# Altium footprint library Connector.PcbLib: 15 footprints
Each footprint in its own frame and in the unit in brackets; x right, y up, seen from the top. Pads: shape width x height; smd on the part's side, far side on the other; paste and mask are expansions set on the pad; w line width, h text height; cw(c..) or ccw(c..) is an arc to the next point about the centre after c.
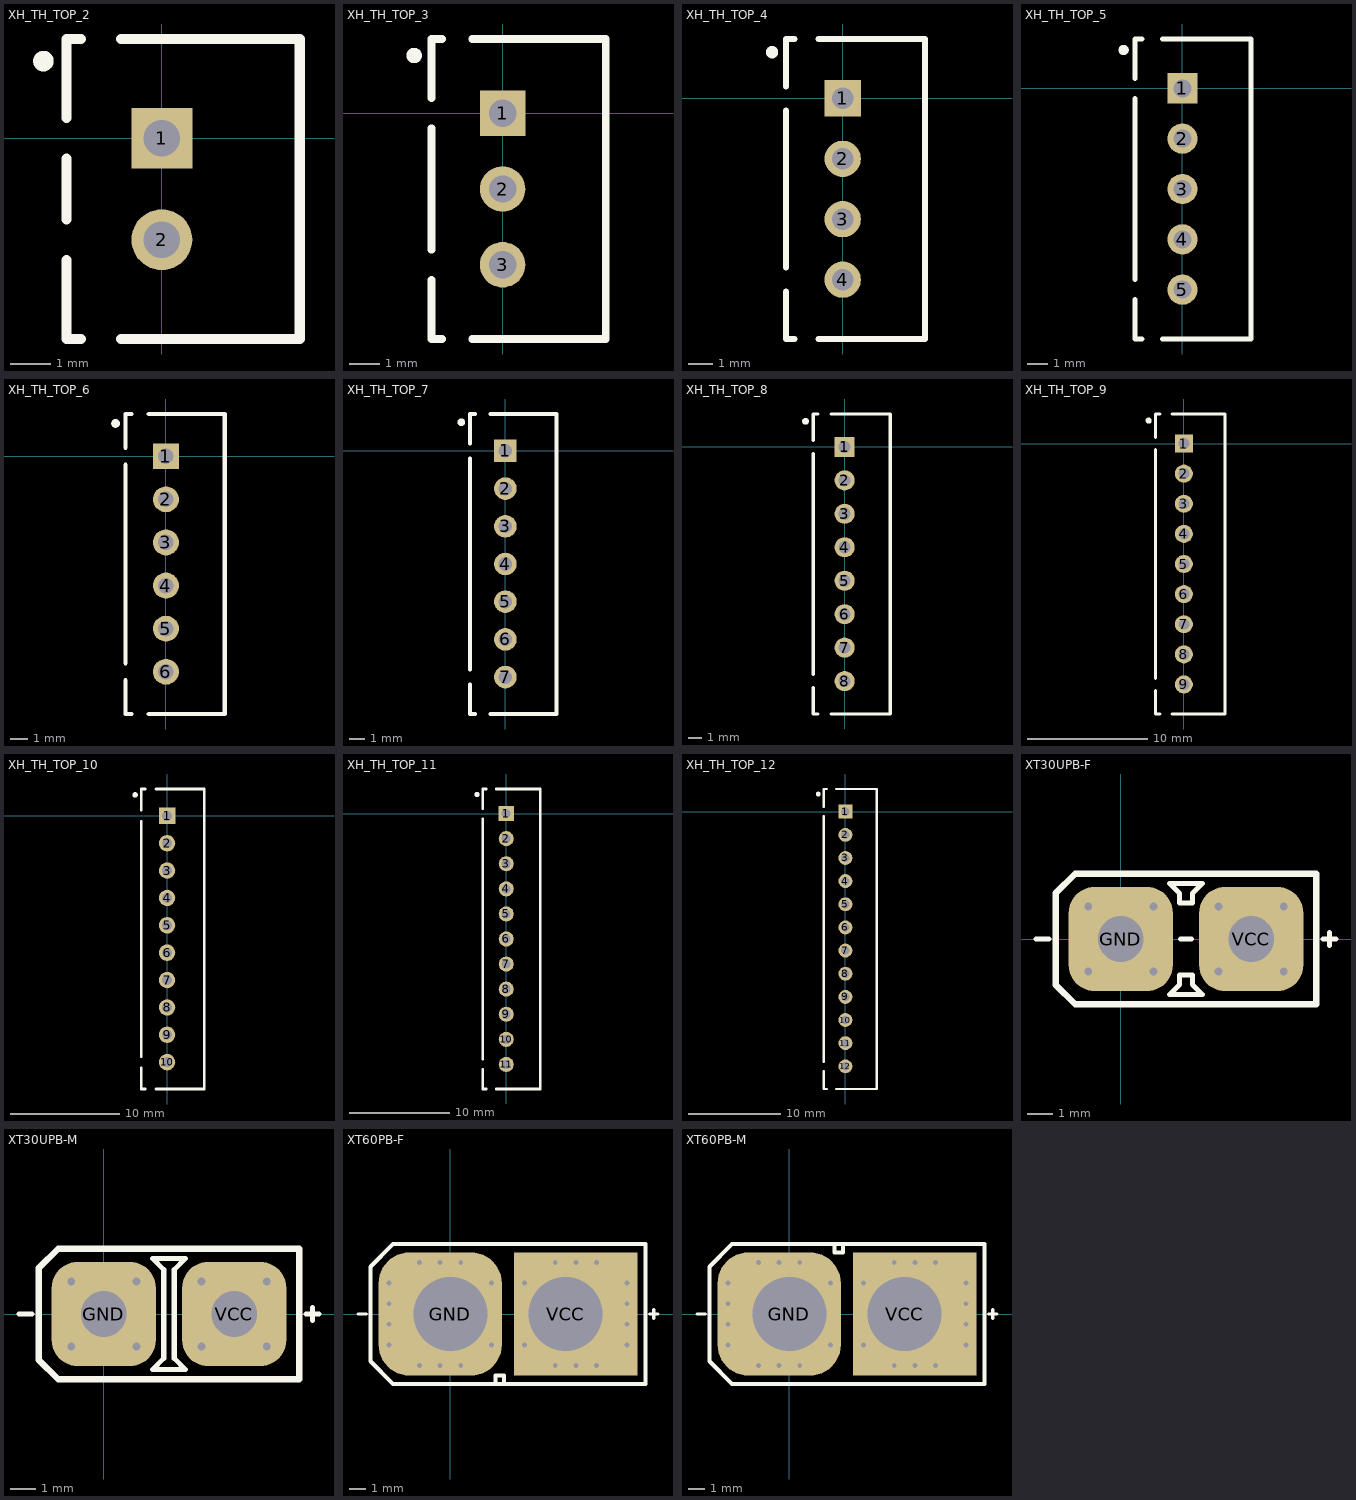
[diagram p0: the footprints below, top view; thin cyan lines are the x and y axes]

## XH_TH_TOP_2 [mm] "JST XH, Through Hole, Top Mount, 2Pin"
height 7
pads (2):
  rect 1.5x1.5 hole 0.9: 1(0,0)
  round 1.5 hole 0.9: 2(0,-2.5)
Top Overlay:
  circle w0.254: c-2.921,1.905 r0.127
  lines w0.254: -2.35,-3 -2.35,-4.95 -2,-4.95 ; -2.35,-2 -2.35,-0.5 ; -2.35,0.5 -2.35,2.45 -2,2.45 ; -1,-4.95 3.4,-4.95 3.4,2.45 -1,2.45

## XH_TH_TOP_3 [mm] "JST XH, Through Hole, Top Mount, 3Pin"
height 7
pads (3):
  rect 1.5x1.5 hole 0.9: 1(0,0)
  round 1.5 hole 0.9: 2(0,-2.5) 3(0,-5)
Top Overlay:
  circle w0.254: c-2.921,1.905 r0.127
  lines w0.254: -2.35,-5.5 -2.35,-7.45 -2,-7.45 ; -2.35,-4.5 -2.35,-0.5 ; -2.35,0.5 -2.35,2.45 -2,2.45 ; -1,-7.45 3.4,-7.45 3.4,2.45 -1,2.45

## XH_TH_TOP_4 [mm] "JST XH, Through Hole, Top Mount, 4Pin"
height 7
pads (4):
  rect 1.5x1.5 hole 0.9: 1(0,0)
  round 1.5 hole 0.9: 2(0,-2.5) 3(0,-5) 4(0,-7.5)
Top Overlay:
  circle w0.254: c-2.921,1.905 r0.127
  lines w0.254: -2.35,-8 -2.35,-9.95 -2,-9.95 ; -2.35,-7 -2.35,-0.5 ; -2.35,0.5 -2.35,2.45 -2,2.45 ; -1,-9.95 3.4,-9.95 3.4,2.45 -1,2.45

## XH_TH_TOP_5 [mm] "JST XH, Through Hole, Top Mount, 5Pin"
height 7
pads (5):
  rect 1.5x1.5 hole 0.9: 1(0,0)
  round 1.5 hole 0.9: 2(0,-2.5) 3(0,-5) 4(0,-7.5) 5(0,-10)
Top Overlay:
  circle w0.254: c-2.921,1.905 r0.127
  lines w0.254: -2.35,-10.5 -2.35,-12.45 -2,-12.45 ; -2.35,-9.5 -2.35,-0.5 ; -2.35,0.5 -2.35,2.45 -2,2.45 ; -1,-12.45 3.4,-12.45 3.4,2.45 -1,2.45

## XH_TH_TOP_6 [mm] "JST XH, Through Hole, Top Mount, 6Pin"
height 7
pads (6):
  rect 1.5x1.5 hole 0.9: 1(0,0)
  round 1.5 hole 0.9: 2(0,-2.5) 3(0,-5) 4(0,-7.5) 5(0,-10) 6(0,-12.5)
Top Overlay:
  circle w0.254: c-2.921,1.905 r0.127
  lines w0.254: -2.35,-13 -2.35,-14.95 -2,-14.95 ; -2.35,-12 -2.35,-0.5 ; -2.35,0.5 -2.35,2.45 -2,2.45 ; -1,-14.95 3.4,-14.95 3.4,2.45 -1,2.45

## XH_TH_TOP_7 [mm] "JST XH, Through Hole, Top Mount, 7Pin"
height 7
pads (7):
  rect 1.5x1.5 hole 0.9: 1(0,0)
  round 1.5 hole 0.9: 2(0,-2.5) 3(0,-5) 4(0,-7.5) 5(0,-10) 6(0,-12.5) 7(0,-15)
Top Overlay:
  circle w0.254: c-2.921,1.905 r0.127
  lines w0.254: -2.35,-15.5 -2.35,-17.45 -2,-17.45 ; -2.35,-14.5 -2.35,-0.5 ; -2.35,0.5 -2.35,2.45 -2,2.45 ; -1,-17.45 3.4,-17.45 3.4,2.45 -1,2.45

## XH_TH_TOP_8 [mm] "JST XH, Through Hole, Top Mount, 8Pin"
height 7
pads (8):
  rect 1.5x1.5 hole 0.9: 1(0,0)
  round 1.5 hole 0.9: 2(0,-2.5) 3(0,-5) 4(0,-7.5) 5(0,-10) 6(0,-12.5) 7(0,-15) 8(0,-17.5)
Top Overlay:
  circle w0.254: c-2.921,1.905 r0.127
  lines w0.254: -2.35,-18 -2.35,-19.95 -2,-19.95 ; -2.35,-17 -2.35,-0.5 ; -2.35,0.5 -2.35,2.45 -2,2.45 ; -1,-19.95 3.4,-19.95 3.4,2.45 -1,2.45

## XH_TH_TOP_9 [mm] "JST XH, Through Hole, Top Mount, 9Pin"
height 7
pads (9):
  rect 1.5x1.5 hole 0.9: 1(0,0)
  round 1.5 hole 0.9: 2(0,-2.5) 3(0,-5) 4(0,-7.5) 5(0,-10) 6(0,-12.5) 7(0,-15) 8(0,-17.5) 9(0,-20)
Top Overlay:
  circle w0.254: c-2.921,1.905 r0.127
  lines w0.254: -2.35,-20.5 -2.35,-22.45 -2,-22.45 ; -2.35,-19.5 -2.35,-0.5 ; -2.35,0.5 -2.35,2.45 -2,2.45 ; -1,-22.45 3.4,-22.45 3.4,2.45 -1,2.45

## XH_TH_TOP_10 [mm] "JST XH, Through Hole, Top Mount, 10Pin"
height 7
pads (10):
  rect 1.5x1.5 hole 0.9: 1(0,0)
  round 1.5 hole 0.9: 2(0,-2.5) 3(0,-5) 4(0,-7.5) 5(0,-10) 6(0,-12.5) 7(0,-15) 8(0,-17.5) 9(0,-20) 10(0,-22.5)
Top Overlay:
  circle w0.254: c-2.921,1.905 r0.127
  lines w0.254: -2.35,-23 -2.35,-24.95 -2,-24.95 ; -2.35,-22 -2.35,-0.5 ; -2.35,0.5 -2.35,2.45 -2,2.45 ; -1,-24.95 3.4,-24.95 3.4,2.45 -1,2.45

## XH_TH_TOP_11 [mm] "JST XH, Through Hole, Top Mount, 11Pin"
height 7
pads (11):
  rect 1.5x1.5 hole 0.9: 1(0,0)
  round 1.5 hole 0.9: 2(0,-2.5) 3(0,-5) 4(0,-7.5) 5(0,-10) 6(0,-12.5) 7(0,-15) 8(0,-17.5) 9(0,-20) 10(0,-22.5) 11(0,-25)
Top Overlay:
  circle w0.254: c-2.921,1.905 r0.127
  lines w0.254: -2.35,-25.5 -2.35,-27.45 -2,-27.45 ; -2.35,-24.5 -2.35,-0.5 ; -2.35,0.5 -2.35,2.45 -2,2.45 ; -1,-27.45 3.4,-27.45 3.4,2.45 -1,2.45

## XH_TH_TOP_12 [mm] "JST XH, Through Hole, Top Mount, 12Pin"
height 7
pads (12):
  rect 1.5x1.5 hole 0.9: 1(0,0)
  round 1.5 hole 0.9: 2(0,-2.5) 3(0,-5) 4(0,-7.5) 5(0,-10) 6(0,-12.5) 7(0,-15) 8(0,-17.5) 9(0,-20) 10(0,-22.5) 11(0,-25) 12(0,-27.5)
Top Overlay:
  circle w0.254: c-2.921,1.905 r0.127
  lines w0.254: -2.35,-28 -2.35,-29.95 -2,-29.95 ; -2.35,-27 -2.35,-0.5 ; -2.35,0.5 -2.35,2.45 -2,2.45 ; -1,-29.95 3.4,-29.95 3.4,2.45 -1,2.45

## XT30UPB-F [mil]
height 370.08
pads (2):
  rrect50% 160x160 hole 70: GND(0,0) VCC(200,0)
via -50,50 diameter 24 hole 12
via 50,50 diameter 24 hole 12
via -50,-50 diameter 24 hole 12
via 50,-50 diameter 24 hole 12
via 150,-50 diameter 24 hole 12
via 150,50 diameter 24 hole 12
via 250,50 diameter 24 hole 12
via 250,-50 diameter 24 hole 12
Top Overlay:
  lines w7.87: 92,0 108,0 ; 75,-85 125,-85 110,-70 110,-55 90,-55 90,-70 75,-85 ; 75,85 90,70 90,55 110,55 110,70 125,85 75,85
  lines w8: -130,0 -110,0 ; 310,0 330,0 ; 320,-10 320,10
  lines w10: -100,-70 -70,-100 300,-100 300,0 300,100 -70,100 -100,70 -100,-70
3D body: height 370.08, standoff 0, extent -100,-100 300,100

## XT30UPB-M [mil]
height 421.26
pads (2):
  rrect50% 160x160 hole 70: GND(0,0) VCC(200,0)
via 250,-50 diameter 24 hole 12
via 250,50 diameter 24 hole 12
via 150,50 diameter 24 hole 12
via 150,-50 diameter 24 hole 12
via 50,-50 diameter 24 hole 12
via -50,-50 diameter 24 hole 12
via 50,50 diameter 24 hole 12
via -50,50 diameter 24 hole 12
Top Overlay:
  lines w7.87: 75,-85 125,-85 108,-68 108,68 125,85 75,85 92,68 92,-68 75,-85
  lines w8: -130,0 -110,0 ; 310,0 330,0 ; 320,-10 320,10
  lines w10: -100,-70 -100,70 -70,100 300,100 300,0 300,-100 -70,-100 -100,-70
3D body: height 421.26, standoff 0, extent -100.02,-100.02 300.02,100.02

## XT60PB-F [mil]
height 629.92
pads (2):
  rrect50% 300x300 hole 180 copper offset -25,0: GND(0,0)
  rect 300x300 hole 180 copper offset 25,0: VCC(280,0)
via 355,125 diameter 24 hole 12
via 305,125 diameter 24 hole 12
via 255,125 diameter 24 hole 12
via 430,75 diameter 24 hole 12
via 430,25 diameter 24 hole 12
via 430,-25 diameter 24 hole 12
via 430,-75 diameter 24 hole 12
via 355,-125 diameter 24 hole 12
via 305,-125 diameter 24 hole 12
via 255,-125 diameter 24 hole 12
via 180,-75 diameter 24 hole 12
via 180,75 diameter 24 hole 12
via -150,-75 diameter 24 hole 12
via -150,-25 diameter 24 hole 12
via -150,25 diameter 24 hole 12
via -150,75 diameter 24 hole 12
via 100,75 diameter 24 hole 12
via 100,-75 diameter 24 hole 12
via 25,-125 diameter 24 hole 12
via -25,-125 diameter 24 hole 12
via -75,-125 diameter 24 hole 12
via -75,125 diameter 24 hole 12
via -25,125 diameter 24 hole 12
via 25,125 diameter 24 hole 12
Top Overlay:
  lines w8: -225,0 -205,0 ; 485,0 505,0 ; 495,-10 495,10
  lines w10: 110,-170 110,-150 130,-150 130,-170 ; -195,-115 -195,115 -140,170 475,170 475,0 475,-170 -140,-170 -195,-115
3D body: height 629.92, standoff 0, extent -195,-170 475,170

## XT60PB-M [mil]
height 629.92
pads (2):
  rrect50% 300x300 hole 180 copper offset -25,0: GND(0,0)
  rect 300x300 hole 180 copper offset 25,0: VCC(280,0)
via 25,125 diameter 24 hole 12
via -25,125 diameter 24 hole 12
via -75,125 diameter 24 hole 12
via -75,-125 diameter 24 hole 12
via -25,-125 diameter 24 hole 12
via 25,-125 diameter 24 hole 12
via 100,-75 diameter 24 hole 12
via 100,75 diameter 24 hole 12
via -150,75 diameter 24 hole 12
via -150,25 diameter 24 hole 12
via -150,-25 diameter 24 hole 12
via -150,-75 diameter 24 hole 12
via 180,75 diameter 24 hole 12
via 180,-75 diameter 24 hole 12
via 255,-125 diameter 24 hole 12
via 305,-125 diameter 24 hole 12
via 355,-125 diameter 24 hole 12
via 430,-75 diameter 24 hole 12
via 430,-25 diameter 24 hole 12
via 430,25 diameter 24 hole 12
via 430,75 diameter 24 hole 12
via 255,125 diameter 24 hole 12
via 305,125 diameter 24 hole 12
via 355,125 diameter 24 hole 12
Top Overlay:
  lines w8: -225,0 -205,0 ; 485,0 505,0 ; 495,-10 495,10
  lines w10: 110,170 110,150 130,150 130,170 ; -195,-115 -195,115 -140,170 475,170 475,0 475,-170 -140,-170 -195,-115
3D body: height 629.92, standoff 0, extent -195,-170 475,170